# Altium footprint library 17762791.PcbLib: 1 footprints
Each footprint in its own frame and in the unit in brackets; x right, y up, seen from the top. Pads: shape width x height; smd on the part's side, far side on the other; paste and mask are expansions set on the pad; w line width, h text height; cw(c..) or ccw(c..) is an arc to the next point about the centre after c.
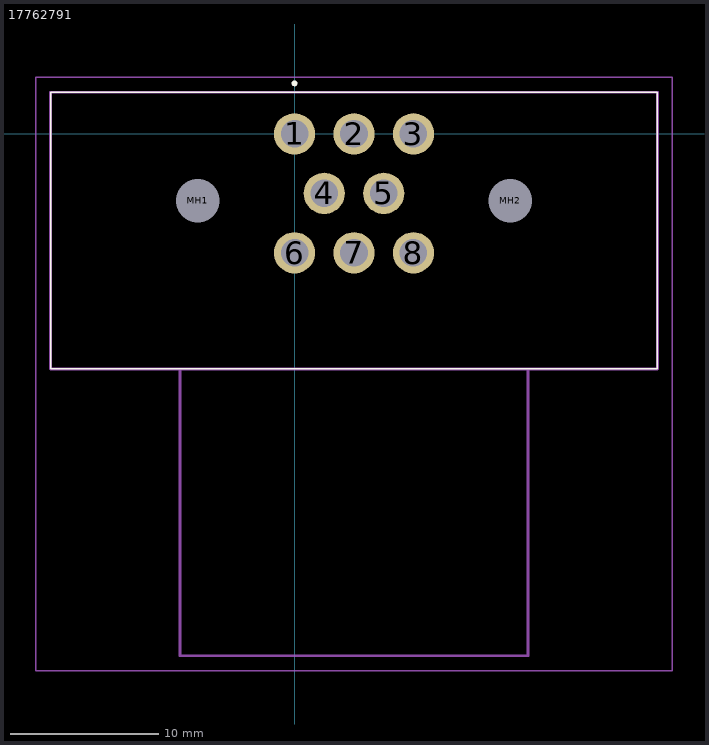
[diagram p0: the footprint, top view; thin cyan lines are the x and y axes]

## 17762791 [mm]
pads (10):
  round 2.775 hole 1.85: 1(0,0) 2(4,0) 3(8,0) 4(2,-4) 5(6,-4) 6(0,-8) 7(4,-8) 8(8,-8)
  round 1.465 hole 2.93 unplated: MH1(-6.5,-4.5) MH2(14.5,-4.5)
Top Overlay:
  lines w0.1: -16.4,-15.8 24.4,-15.8 24.4,2.8 -16.4,2.8 -16.4,-15.8
  lines w0.2: 0,3.3 0,3.3 ; 0,3.3 ccw(c0,3.4) 0,3.5 ; 0,3.3 cw(c0,3.4) 0,3.5 ; 0,3.5 0,3.5
Mechanical 15:
  lines w0.2: -16.4,-15.8 24.4,-15.8 24.4,2.8 -16.4,2.8 -16.4,-15.8 ; -7.7,-35.1 15.7,-35.1 15.7,-15.8 -7.7,-15.8 -7.7,-35.1
Mechanical 20:
  lines w0.1: -17.4,-36.1 25.4,-36.1 25.4,3.8 -17.4,3.8 -17.4,-36.1